# Altium schematic symbol library Res_Yageo_RC0603FR-0710KL_eec.SchLib: 1 symbol
Pins are listed as number, name and electrical type; pins without a type are passive.

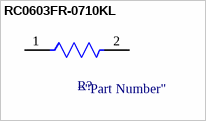
[diagram p0: symbol RC0603FR-0710KL]

## RC0603FR-0710KL
designator R?  (value not drawn)
pins: 1, 2